# Altium footprint library MOLEX_2171830001.PcbLib: 1 footprints
Each footprint in its own frame and in the unit in brackets; x right, y up, seen from the top. Pads: shape width x height; smd on the part's side, far side on the other; paste and mask are expansions set on the pad; w line width, h text height; cw(c..) or ccw(c..) is an arc to the next point about the centre after c.
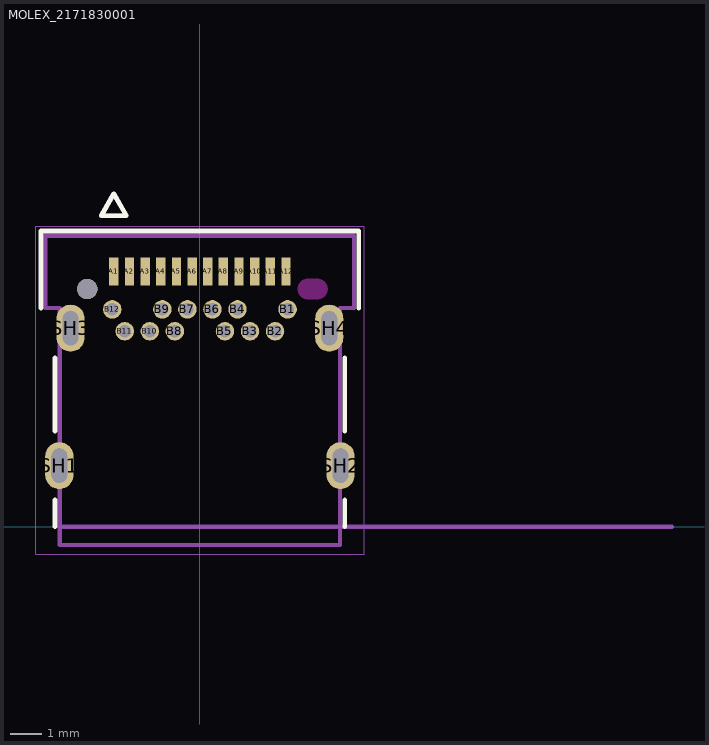
[diagram p0: the footprint, top view; thin cyan lines are the x and y axes]

## MOLEX_2171830001 [mm]
height 3.315
pads (29):
  rect 0.298x0.9 smd mask+0.064: A1(-2.75,8.15) A2(-2.25,8.15) A3(-1.75,8.15) A4(-1.25,8.15) A5(-0.75,8.15) A6(-0.25,8.15) A7(0.25,8.15) A8(0.75,8.15) A9(1.25,8.15) A10(1.75,8.15) A11(2.25,8.15) A12(2.75,8.15)
  round 0.59 hole 0.4 mask+0.064: B1(2.8,6.94) B2(2.4,6.24) B3(1.6,6.24) B4(1.2,6.94) B5(0.8,6.24) B6(0.4,6.94) B7(-0.4,6.94) B8(-0.8,6.24) B9(-1.2,6.94) B10(-1.6,6.24) B11(-2.4,6.24) B12(-2.8,6.94)
  oval 0.9x1.5 hole 0.5 slot 1.1 at 90 deg mask+0.064: SH1(-4.49,1.95) SH2(4.49,1.95) SH3(-4.13,6.34) SH4(4.13,6.34)
  round 0.65 hole 0.65 unplated mask+0.064: ""(-3.6,7.59)
Top Overlay:
  lines w0.15: -5.075,6.98 -5.075,9.44 5.075,9.44 5.075,6.98 ; -4.625,0 -4.625,0.85 ; -4.625,3.05 -4.625,5.4 ; 4.625,0 4.625,0.85 ; 4.625,3.05 4.625,5.4 ; -3.15,9.933 -2.75,10.633 -2.35,9.933 -3.15,9.933
Top Solder:
  region: 3.77,7.978 3.791,7.976 3.811,7.974 3.831,7.97 3.851,7.965 3.87,7.959 3.889,7.953 3.908,7.945 3.926,7.936 3.944,7.926 3.962,7.916 3.978,7.904 3.994,7.892 4.01,7.879 4.025,7.865 4.039,7.85 4.052,7.834 4.064,7.818 4.076,7.802 4.086,7.784 4.096,7.766 4.105,7.748 4.113,7.729 4.119,7.71 4.125,7.691 4.13,7.671 4.134,7.651 4.136,7.631 4.138,7.61 4.138,7.59 4.138,7.57 4.136,7.549 4.134,7.529 4.13,7.509 4.125,7.489 4.119,7.47 4.113,7.451 4.105,7.432 4.096,7.414 4.086,7.396 4.076,7.378 4.064,7.362 4.052,7.346 4.039,7.33 4.025,7.315 4.01,7.301 3.994,7.288 3.978,7.276 3.962,7.264 3.944,7.254 3.926,7.244 3.908,7.235 3.889,7.227 3.87,7.221 3.851,7.215 3.831,7.21 3.811,7.206 3.791,7.204 3.77,7.202 3.43,7.202 3.409,7.204 3.389,7.206 3.369,7.21 3.349,7.215 3.33,7.221 3.311,7.227 3.292,7.235 3.274,7.244 3.256,7.254 3.238,7.264 3.222,7.276 3.206,7.288 3.19,7.301 3.175,7.315 3.161,7.33 3.148,7.346 3.136,7.362 3.124,7.378 3.114,7.396 3.104,7.414 3.095,7.432 3.087,7.451 3.081,7.47 3.075,7.489 3.07,7.509 3.066,7.529 3.064,7.549 3.062,7.57 3.062,7.59 3.062,7.61 3.064,7.631 3.066,7.651 3.07,7.671 3.075,7.691 3.081,7.71 3.087,7.729 3.095,7.748 3.104,7.766 3.114,7.784 3.124,7.802 3.136,7.818 3.148,7.834 3.161,7.85 3.175,7.865 3.19,7.879 3.206,7.892 3.222,7.904 3.238,7.916 3.256,7.926 3.274,7.936 3.292,7.945 3.311,7.953 3.33,7.959 3.349,7.965 3.369,7.97 3.389,7.974 3.409,7.976 3.43,7.978 3.45,7.979 3.75,7.979
Bottom Solder:
  region: 3.77,7.978 3.791,7.976 3.811,7.974 3.831,7.97 3.851,7.965 3.87,7.959 3.889,7.953 3.908,7.945 3.926,7.936 3.944,7.926 3.962,7.916 3.978,7.904 3.994,7.892 4.01,7.879 4.025,7.865 4.039,7.85 4.052,7.834 4.064,7.818 4.076,7.802 4.086,7.784 4.096,7.766 4.105,7.748 4.113,7.729 4.119,7.71 4.125,7.691 4.13,7.671 4.134,7.651 4.136,7.631 4.138,7.61 4.138,7.59 4.138,7.57 4.136,7.549 4.134,7.529 4.13,7.509 4.125,7.489 4.119,7.47 4.113,7.451 4.105,7.432 4.096,7.414 4.086,7.396 4.076,7.378 4.064,7.362 4.052,7.346 4.039,7.33 4.025,7.315 4.01,7.301 3.994,7.288 3.978,7.276 3.962,7.264 3.944,7.254 3.926,7.244 3.908,7.235 3.889,7.227 3.87,7.221 3.851,7.215 3.831,7.21 3.811,7.206 3.791,7.204 3.77,7.202 3.43,7.202 3.409,7.204 3.389,7.206 3.369,7.21 3.349,7.215 3.33,7.221 3.311,7.227 3.292,7.235 3.274,7.244 3.256,7.254 3.238,7.264 3.222,7.276 3.206,7.288 3.19,7.301 3.175,7.315 3.161,7.33 3.148,7.346 3.136,7.362 3.124,7.378 3.114,7.396 3.104,7.414 3.095,7.432 3.087,7.451 3.081,7.47 3.075,7.489 3.07,7.509 3.066,7.529 3.064,7.549 3.062,7.57 3.062,7.59 3.062,7.61 3.064,7.631 3.066,7.651 3.07,7.671 3.075,7.691 3.081,7.71 3.087,7.729 3.095,7.748 3.104,7.766 3.114,7.784 3.124,7.802 3.136,7.818 3.148,7.834 3.161,7.85 3.175,7.865 3.19,7.879 3.206,7.892 3.222,7.904 3.238,7.916 3.256,7.926 3.274,7.936 3.292,7.945 3.311,7.953 3.33,7.959 3.349,7.965 3.369,7.97 3.389,7.974 3.409,7.976 3.43,7.978 3.45,7.979 3.75,7.979
Keep-Out Layer:
  board cut-out: 3.75,7.265 3.45,7.265 3.433,7.265 3.416,7.267 3.399,7.269 3.382,7.272 3.366,7.276 3.35,7.281 3.334,7.287 3.318,7.293 3.302,7.3 3.288,7.309 3.273,7.317 3.259,7.327 3.245,7.337 3.233,7.348 3.22,7.36 3.208,7.373 3.197,7.385 3.187,7.399 3.177,7.413 3.169,7.428 3.16,7.442 3.153,7.458 3.147,7.474 3.141,7.49 3.136,7.506 3.132,7.522 3.129,7.539 3.127,7.556 3.125,7.573 3.125,7.59 3.125,7.607 3.127,7.624 3.129,7.641 3.132,7.658 3.136,7.674 3.141,7.69 3.147,7.706 3.153,7.722 3.16,7.738 3.169,7.752 3.177,7.767 3.187,7.781 3.197,7.795 3.208,7.807 3.22,7.82 3.233,7.832 3.245,7.843 3.259,7.853 3.273,7.863 3.288,7.871 3.302,7.88 3.318,7.887 3.334,7.893 3.35,7.899 3.366,7.904 3.382,7.908 3.399,7.911 3.416,7.913 3.433,7.915 3.45,7.915 3.75,7.915 3.767,7.915 3.784,7.913 3.801,7.911 3.818,7.908 3.834,7.904 3.85,7.899 3.866,7.893 3.882,7.887 3.898,7.88 3.913,7.871 3.927,7.863 3.941,7.853 3.955,7.843 3.967,7.832 3.98,7.82 3.992,7.807 4.003,7.795 4.013,7.781 4.023,7.767 4.031,7.752 4.04,7.738 4.047,7.722 4.053,7.706 4.059,7.69 4.064,7.674 4.068,7.658 4.071,7.641 4.073,7.624 4.075,7.607 4.075,7.59 4.075,7.573 4.073,7.556 4.071,7.539 4.068,7.522 4.064,7.506 4.059,7.49 4.053,7.474 4.047,7.458 4.04,7.442 4.031,7.428 4.023,7.413 4.013,7.399 4.003,7.385 3.992,7.373 3.98,7.36 3.967,7.348 3.955,7.337 3.941,7.327 3.927,7.317 3.913,7.309 3.898,7.3 3.882,7.293 3.866,7.287 3.85,7.281 3.834,7.276 3.818,7.272 3.801,7.269 3.784,7.267 3.767,7.265
Mechanical 2:
  text "'.Designator'" at 0,4.877 h0.7
Mechanical 12:
  text "NPTH Drill 0.65 +/- 0.05" at -5.93,12.992 h0.5
  text "PTH Drill 0.4 +/- 0.05" at -5.93,14.971 h0.5
  text "NPTH Slot 0.95 +/- 0.05 X 0.65 +/- 0.05" at -5.93,14.032 h0.5
  text "PTH Slot 1.1 +/- 0.05 X 0.5 +/- 0.05" at -5.93,15.987 h0.5
Mechanical 13:
  lines w0.13: 15.08,0 -4.475,0 ; -4.475,0 -4.475,6.98 -4.925,6.98 -4.925,9.29 4.925,9.29 4.925,6.98 4.475,6.98 4.475,-0.58 -4.475,-0.58 -4.475,0 ; -3.15,9.933 -2.75,10.633 -2.35,9.933 -3.15,9.933
  text "PCB EDGE" at 5.67,0.4 h1.27
Mechanical 15:
  lines w0.01: -5.24,-0.88 5.24,-0.88 5.24,9.59 -5.24,9.59 -5.24,-0.88
3D body "2171830001.stp": height 2.23, standoff -2.23, extent -4.925,-0.744 4.925,9.126